# Altium footprint library LED_SK9822.PcbLib: 1 footprints
Each footprint in its own frame and in the unit in brackets; x right, y up, seen from the top. Pads: shape width x height; smd on the part's side, far side on the other; paste and mask are expansions set on the pad; w line width, h text height; cw(c..) or ccw(c..) is an arc to the next point about the centre after c.
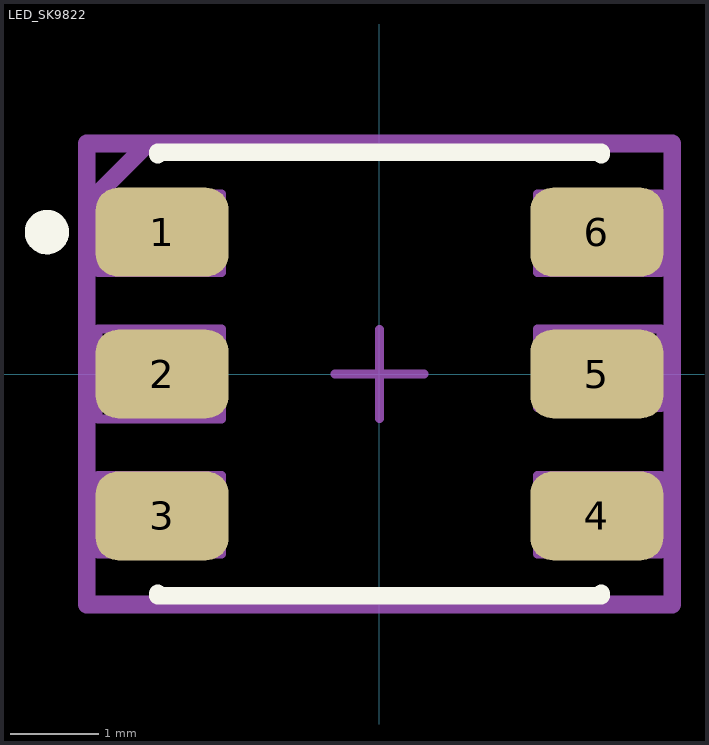
[diagram p0: the footprint, top view; thin cyan lines are the x and y axes]

## LED_SK9822 [mm]
pads (6):
  rrect50% 1.5x1 smd: 1(-2.45,1.6) 2(-2.45,0) 3(-2.45,-1.6) 4(2.45,-1.6) 5(2.45,0) 6(2.45,1.6)
Top Overlay:
  circle w0.25: c-3.75,1.6 r0.125
  lines w0.2: -2.5,-2.475 -2.5,-2.5 2.5,-2.5 2.5,-2.475 ; -2.5,2.475 -2.5,2.5 2.5,2.5 2.5,2.475
Mechanical 3:
  lines w0.2: -3.3,-2.6 3.3,-2.6 3.3,2.6 -2.607,2.6 -3.3,1.907 -3.3,-2.6
Mechanical 5:
  lines w0.1: -3.175,-2.032 -1.778,-2.032 -1.778,-1.143 -3.175,-1.143 -3.175,-2.032 ; -3.175,-0.508 -1.778,-0.508 -1.778,0.508 -3.175,0.508 -3.175,-0.508 ; -3.175,1.143 -1.778,1.143 -1.778,2.032 -3.175,2.032 -3.175,1.143 ; 1.778,-2.032 3.175,-2.032 3.175,-1.143 1.778,-1.143 1.778,-2.032 ; 1.778,-0.381 3.175,-0.381 3.175,0.508 1.778,0.508 1.778,-0.381 ; 1.778,1.143 3.175,1.143 3.175,2.032 1.778,2.032 1.778,1.143
Mechanical 7:
  lines w0.1: -0.5,0 0.5,0 ; 0,-0.5 0,0.5
  lines w0.2: -3.3,-2.6 -3.3,2.6 3.3,2.6 3.3,-2.6 -3.3,-2.6
Mechanical 9:
  text "'.Designator'" at -5.69,-0.144 h1.02
3D body "Diode_Adafruit_Industries_2343_eec.STEP": height 1.4, standoff 0, extent -2.7,-2.5 2.7,2.5